# Altium footprint library RESAD3700W80L1500D550.PcbLib: 1 footprints
Each footprint in its own frame and in the unit in brackets; x right, y up, seen from the top. Pads: shape width x height; smd on the part's side, far side on the other; paste and mask are expansions set on the pad; w line width, h text height; cw(c..) or ccw(c..) is an arc to the next point about the centre after c.
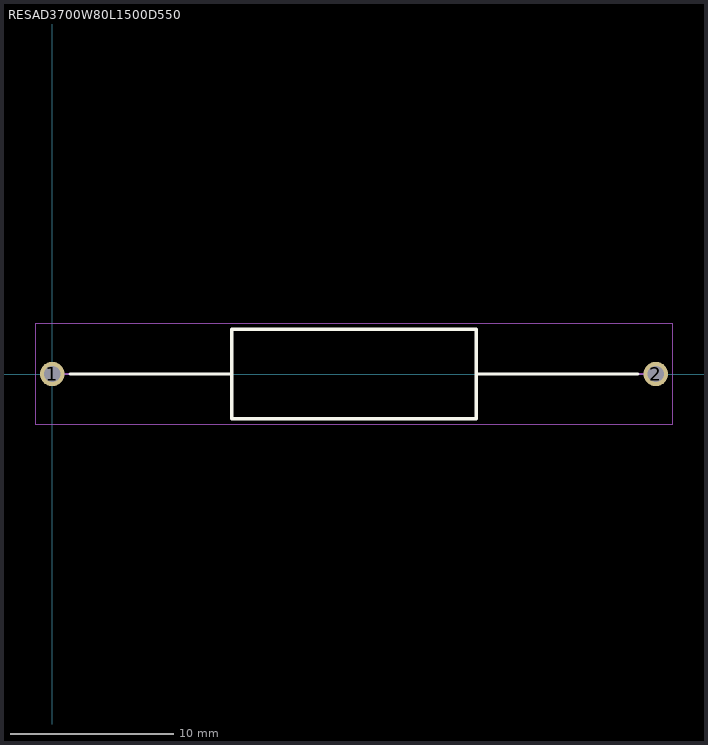
[diagram p0: the footprint, top view; thin cyan lines are the x and y axes]

## RESAD3700W80L1500D550 [mm]
pads (2):
  round 1.5 hole 1: 1(0,0) 2(37,0)
Top Overlay:
  lines w0.2: 1.1,0 11,0 ; 26,0 35.9,0 ; 11,-2.75 26,-2.75 26,2.75 11,2.75 11,-2.75
Mechanical 15:
  lines w0.1: 0,0 11,0 ; 26,0 37,0 ; 11,-2.75 26,-2.75 26,2.75 11,2.75 11,-2.75
Mechanical 20:
  lines w0.05: -1,-3.1 38,-3.1 38,3.1 -1,3.1 -1,-3.1